# Altium schematic symbol library Crystal.SchLib: 1 symbol
Pins are listed as number, name and electrical type; pins without a type are passive.

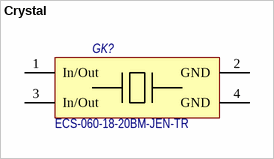
[diagram p0: symbol Crystal]

## Crystal
designator GK?  Наименование: ECS-060-18-20BM-JEN-TR
Crystall; Назначение: Кварцевый генератор; Потребление, Вт: 0,165; ComponentLink1Description: DataSheet; ComponentLink1URL: http://www.lit-phonon.ru/downloads/GK108-P.pdf
footprint SMD_7050_Crystal_Oscillator
footprint SMD_7050_Crystal_Oscillator
footprint SMD_3025_Crustal_Oscilator
pins: 1 In/Out "Enable/~Disable", 2 GND "Enable/~Disable", 3 In/Out, 4 GND